# Altium footprint library Pcb_74HC595.PcbLib: 1 footprints
Each footprint in its own frame and in the unit in brackets; x right, y up, seen from the top. Pads: shape width x height; smd on the part's side, far side on the other; paste and mask are expansions set on the pad; w line width, h text height; cw(c..) or ccw(c..) is an arc to the next point about the centre after c.
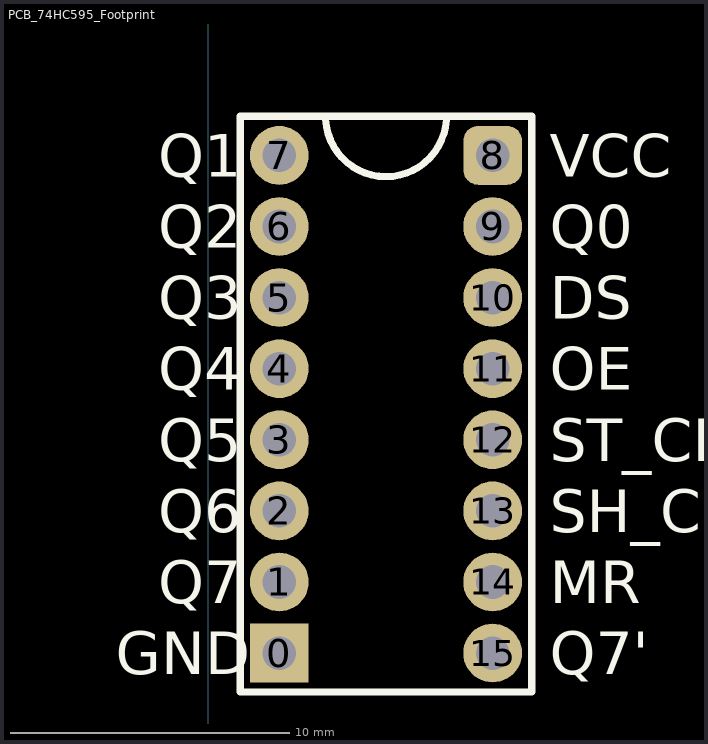
[diagram p0: the footprint, top view; thin cyan lines are the x and y axes]

## PCB_74HC595_Footprint [mm]
pads (16):
  rect 2.1x2.1 hole 1.2: 0(2.54,2.54)
  round 2.1 hole 1.2: 1(2.54,5.08) 2(2.54,7.62) 3(2.54,10.16) 4(2.54,12.7) 5(2.54,15.24) 6(2.54,17.78) 7(2.54,20.32) 9(10.16,17.78) 10(10.16,15.24) 11(10.16,12.7) 12(10.16,10.16) 13(10.16,7.62) 14(10.16,5.08) 15(10.16,2.54)
  rrect50% 2.1x2.1 hole 1.2: 8(10.16,20.32)
Top Overlay:
  lines w0.254: 4.194,21.597 ccw(c6.35,21.717) 8.505,21.582 ; 1.143,1.143 11.557,1.143 11.557,21.717 1.143,21.717 1.143,1.143
  text "Q7'" at 12.192,1.778 h1.52
  text "MR" at 12.192,4.318 h1.52
  text "SH_CP" at 12.192,6.858 h1.52
  text "ST_CP" at 12.192,9.398 h1.52
  text "OE" at 12.192,11.938 h1.52
  text "DS" at 12.192,14.478 h1.52
  text "Q0" at 12.192,17.018 h1.52
  text "VCC" at 12.192,19.558 h1.52
  text "GND" at -3.302,1.778 h1.52
  text "Q7" at -1.778,4.318 h1.52
  text "Q6" at -1.778,6.858 h1.52
  text "Q5" at -1.778,9.398 h1.52
  text "Q4" at -1.778,11.938 h1.52
  text "Q3" at -1.778,14.478 h1.52
  text "Q2" at -1.778,17.018 h1.52
  text "Q1" at -1.778,19.558 h1.52